# EAGLE library part MCP16301 (library Microchip-Tim)
Microchip MCP16301 High Voltage Input Integrated Switch Step-Down Regulator
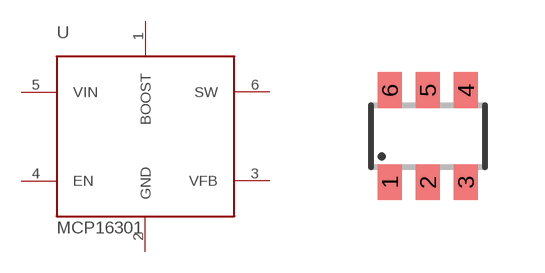
[diagram p3: symbol with the pads of SOT23-6; footprint SOT23-6]

Designator prefix -

## MCP16301  [SOT23-6]
1  BOOST  pas
2  GND  pwr
3  VFB  in
4  EN  in
5  VIN  pwr
6  SW  sup

## Footprint SOT23-6 (pad centres in mm)
smd 0.6 x 0.9: 1 -0.95,-1.15; 2 0,-1.15; 3 0.95,-1.15; 4 0.95,1.15; 5 0,1.15; 6 -0.95,1.15